# EAGLE library part ZXMHC3F381N8 (library h8-ic)
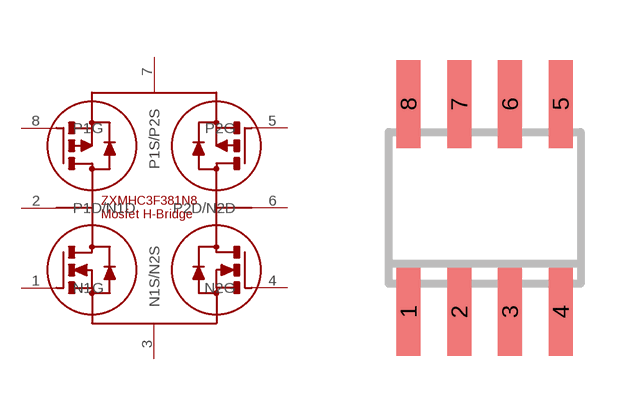
[diagram p2: symbol with the pads of SO-08; footprint SO-08]

Designator prefix -

## ZXMHC3F381N8  [SO-08]
1  N1G
2  P1D/N1D
3  N1S/N2S
4  N2G
5  P2G
6  P2D/N2D
7  P1S/P2S
8  P1G

## Footprint SO-08 (pad centres in mm)
Small Outline Integrated Circuit
smd 0.6 x 2.2: 1 -1.905,-2.6; 2 -0.635,-2.6; 3 0.635,-2.6; 4 1.905,-2.6; 5 1.905,2.6; 6 0.635,2.6; 7 -0.635,2.6; 8 -1.905,2.6